# Altium integrated library AUVic_Integrated_Library_Oscillators.IntLib: 8 symbols
Pins are listed as number, name and electrical type; pins without a type are passive.

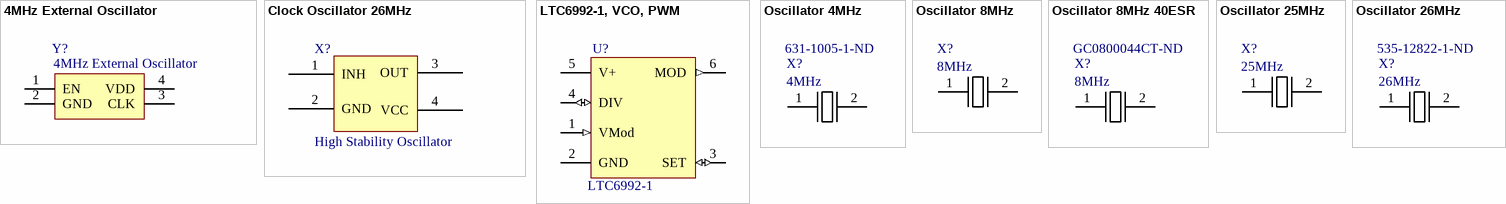
[diagram p0: symbols 4MHz External Oscillator to Oscillator 26MHz]

## 4MHz External Oscillator
designator Y?
3mA; Made By: Andy Bates; Supplier 1: Digi-Key; Created On: 2016-09-09; Supplier Part Number 1: DSC1033CI1-002.0000-ND
footprint 3.2x2.5 Clock
pins: 1 EN, 2 GND, 3 CLK, 4 VDD

## Clock Oscillator 26MHz
designator X?, comment High Stability Oscillator
Supplier 1: Digi-Key; Supplier Part Number 1: 478-6305-1-ND; Created by: Gabriel
footprint KC2520C-C2 SOP
pins: 1 INH, 2 GND, 3 OUT, 4 VCC

## LTC6992-1, VCO, PWM
designator U?, comment LTC6992-1
LTC6992-1, VCO, PWM; Created By: Ashwin Sira; Publisher: AUVic; Supplier 1: Digi-Key; Supplier Part Number 1: LTC6992CS6-1#TRMPBFCT-ND
footprint SOT23-6 LTC6992-1 (SOT23, 6-Leads, Body 2.90x2.80mm, Pitch 0.95mm, IPC High Density)
pins: 1 VMod (in), 2 GND (power), 3 SET (io), 4 DIV (io), 5 V+ (power), 6 MOD (out)

## Oscillator 4MHz
designator X?, comment 4MHz  Supplier Part Number 1: 631-1005-1-ND
4Mhz 150ESR  20pF -20°C ~ 70°C; Made By: Andy Bates; Supplier 1: Digi-Key
footprint HC49/US
pins: 1, 2

## Oscillator 8MHz
designator X?, comment 8MHz
Made By: Andy Bates; Supplier 1: Digikey; Supplier 1 Part Number: 535-10212-1-ND
footprint HC49/US
pins: 1, 2

## Oscillator 8MHz 40ESR
designator X?, comment 8MHz  Supplier Part Number 1: GC0800044CT-ND
8Mhz 40ESR  16pF -20°C ~ 70°C; Made By: Lyden Smith; Date Made: 2017-09-18; Supplier 1: Digi-Key
footprint HC49/US
pins: 1, 2

## Oscillator 25MHz
designator X?, comment 25MHz
25Mhz 40ESR  18pF -20°C ~ 75°C; Made By: Andy Bates; Supplier 1: Digi-Key; Supplier Part Number 1: 535-10235-6-ND
footprint HC49/US
pins: 1, 2

## Oscillator 26MHz
designator X?, comment 26MHz  Supplier Part Number 1: 535-12822-1-ND
26Mhz 60ESR  18pF -40°C ~ 85°C; Made By: Andy Bates; Supplier 1: Digi-Key
footprint HC49/US
pins: 1, 2